# EAGLE library part AT91SAM7A3 (library atmel-arm)
AT91SAM7A3 32-bit ARM7 microcontroller
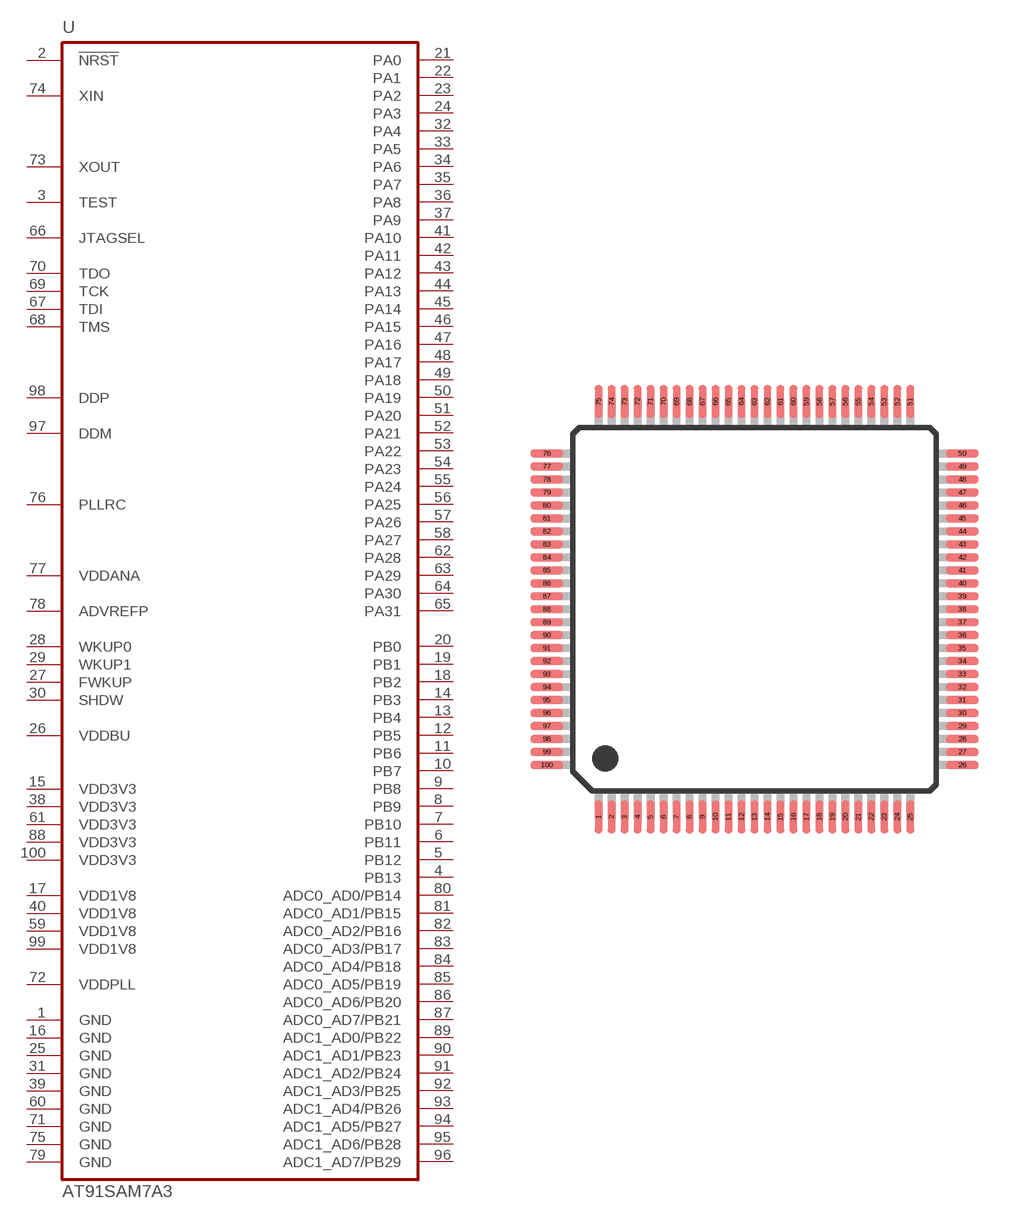
[diagram p4: symbol with the pads of LQFP100; footprint LQFP100]

Designator prefix U

## AT91SAM7A3  [LQFP100]
1  GND  pwr
2  !NRST  in
3  TEST  pas
4  PB13
5  PB12
6  PB11
7  PB10
8  PB9
9  PB8
10  PB7
11  PB6
12  PB5
13  PB4
14  PB3
15  VDD3V3  pwr
16  GND  pwr
17  VDD1V8  pwr
18  PB2
19  PB1
20  PB0
21  PA0
22  PA1
23  PA2
24  PA3
25  GND  pwr
26  VDDBU  pwr
27  FWKUP  pas
28  WKUP0  pas
29  WKUP1  pas
30  SHDW  pas
31  GND  pwr
32  PA4
33  PA5
34  PA6
35  PA7
36  PA8
37  PA9
38  VDD3V3  pwr
39  GND  pwr
40  VDD1V8  pwr
41  PA10
42  PA11
43  PA12
44  PA13
45  PA14
46  PA15
47  PA16
48  PA17
49  PA18
50  PA19
51  PA20
52  PA21
53  PA22
54  PA23
55  PA24
56  PA25
57  PA26
58  PA27
59  VDD1V8  pwr
60  GND  pwr
61  VDD3V3  pwr
62  PA28
63  PA29
64  PA30
65  PA31
66  JTAGSEL  in
67  TDI  in
68  TMS  in
69  TCK  in
70  TDO  out
71  GND  pwr
72  VDDPLL  pwr
73  XOUT  out
74  XIN  in
75  GND  pwr
76  PLLRC  pwr
77  VDDANA  pwr
78  ADVREFP
79  GND  pwr
80  ADC0_AD0/PB14
81  ADC0_AD1/PB15
82  ADC0_AD2/PB16
83  ADC0_AD3/PB17
84  ADC0_AD4/PB18
85  ADC0_AD5/PB19
86  ADC0_AD6/PB20
87  ADC0_AD7/PB21
88  VDD3V3  pwr
89  ADC1_AD0/PB22
90  ADC1_AD1/PB23
91  ADC1_AD2/PB24
92  ADC1_AD3/PB25
93  ADC1_AD4/PB26
94  ADC1_AD5/PB27
95  ADC1_AD6/PB28
96  ADC1_AD7/PB29
97  DDM
98  DDP
99  VDD1V8  pwr
100  VDD3V3  pwr

## Footprint LQFP100 (pad centres in mm)
LQFP100
smd 0.3 x 1.25: 1 -6,-8; 2 -5.5,-8; 3 -5,-8; 4 -4.5,-8; 5 -4,-8; 6 -3.5,-8; 7 -3,-8; 8 -2.5,-8; 9 -2,-8; 10 -1.5,-8; 11 -1,-8; 12 -0.5,-8; 13 0,-8; 14 0.5,-8; 15 1,-8; 16 1.5,-8; 17 2,-8; 18 2.5,-8; 19 3,-8; 20 3.5,-8; 21 4,-8; 22 4.5,-8; 23 5,-8; 24 5.5,-8; 25 6,-8; 51 6,8; 52 5.5,8; 53 5,8; 54 4.5,8; 55 4,8; 56 3.5,8; 57 3,8; 58 2.5,8; 59 2,8; 60 1.5,8; 61 1,8; 62 0.5,8; 63 0,8; 64 -0.5,8; 65 -1,8; 66 -1.5,8; 67 -2,8; 68 -2.5,8; 69 -3,8; 70 -3.5,8; 71 -4,8; 72 -4.5,8; 73 -5,8; 74 -5.5,8; 75 -6,8
smd 1.25 x 0.3: 26 8,-6; 27 8,-5.5; 28 8,-5; 29 8,-4.5; 30 8,-4; 31 8,-3.5; 32 8,-3; 33 8,-2.5; 34 8,-2; 35 8,-1.5; 36 8,-1; 37 8,-0.5; 38 8,0; 39 8,0.5; 40 8,1; 41 8,1.5; 42 8,2; 43 8,2.5; 44 8,3; 45 8,3.5; 46 8,4; 47 8,4.5; 48 8,5; 49 8,5.5; 50 8,6; 76 -8,6; 77 -8,5.5; 78 -8,5; 79 -8,4.5; 80 -8,4; 81 -8,3.5; 82 -8,3; 83 -8,2.5; 84 -8,2; 85 -8,1.5; 86 -8,1; 87 -8,0.5; 88 -8,0; 89 -8,-0.5; 90 -8,-1; 91 -8,-1.5; 92 -8,-2; 93 -8,-2.5; 94 -8,-3; 95 -8,-3.5; 96 -8,-4; 97 -8,-4.5; 98 -8,-5; 99 -8,-5.5; 100 -8,-6